# Altium footprint library SO-2F.PcbLib: 1 footprints
Each footprint in its own frame and in the unit in brackets; x right, y up, seen from the top. Pads: shape width x height; smd on the part's side, far side on the other; paste and mask are expansions set on the pad; w line width, h text height; cw(c..) or ccw(c..) is an arc to the next point about the centre after c.
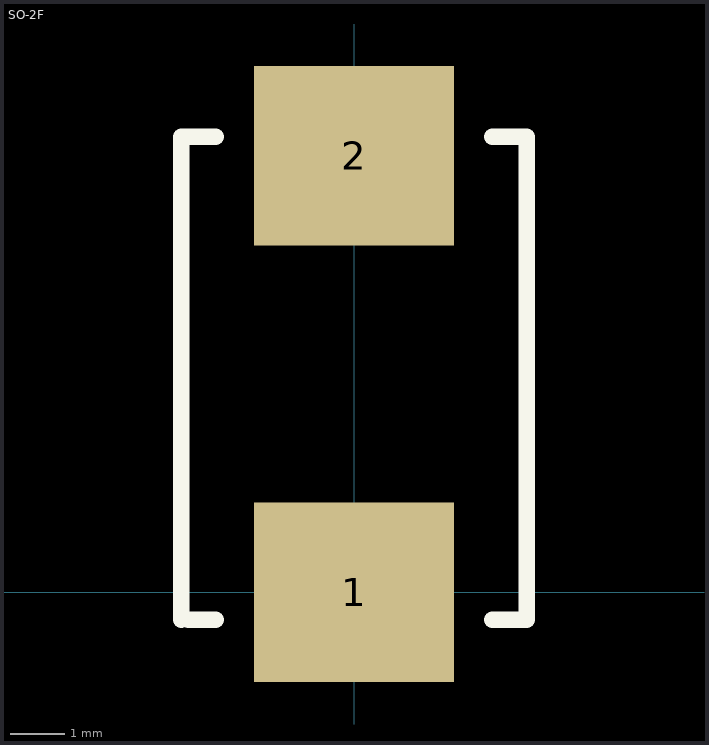
[diagram p0: the footprint, top view; thin cyan lines are the x and y axes]

## SO-2F [mil]
pads (2):
  rect 145x130 smd: 1(0,0) 2(0,316)
TopOverlay:
  lines w12: -125,-20 -125,330 -100,330 ; -120,-20 -100,-20 ; 100,-20 125,-20 125,330 100,330
Mechanical4:
  text ".065" at 0,0 h1